# Altium footprint library SuperMiniCar.PcbLib: 38 footprints (part 1 of 3)
Each footprint in its own frame and in the unit in brackets; x right, y up, seen from the top. Pads: shape width x height; smd on the part's side, far side on the other; paste and mask are expansions set on the pad; w line width, h text height; cw(c..) or ccw(c..) is an arc to the next point about the centre after c.
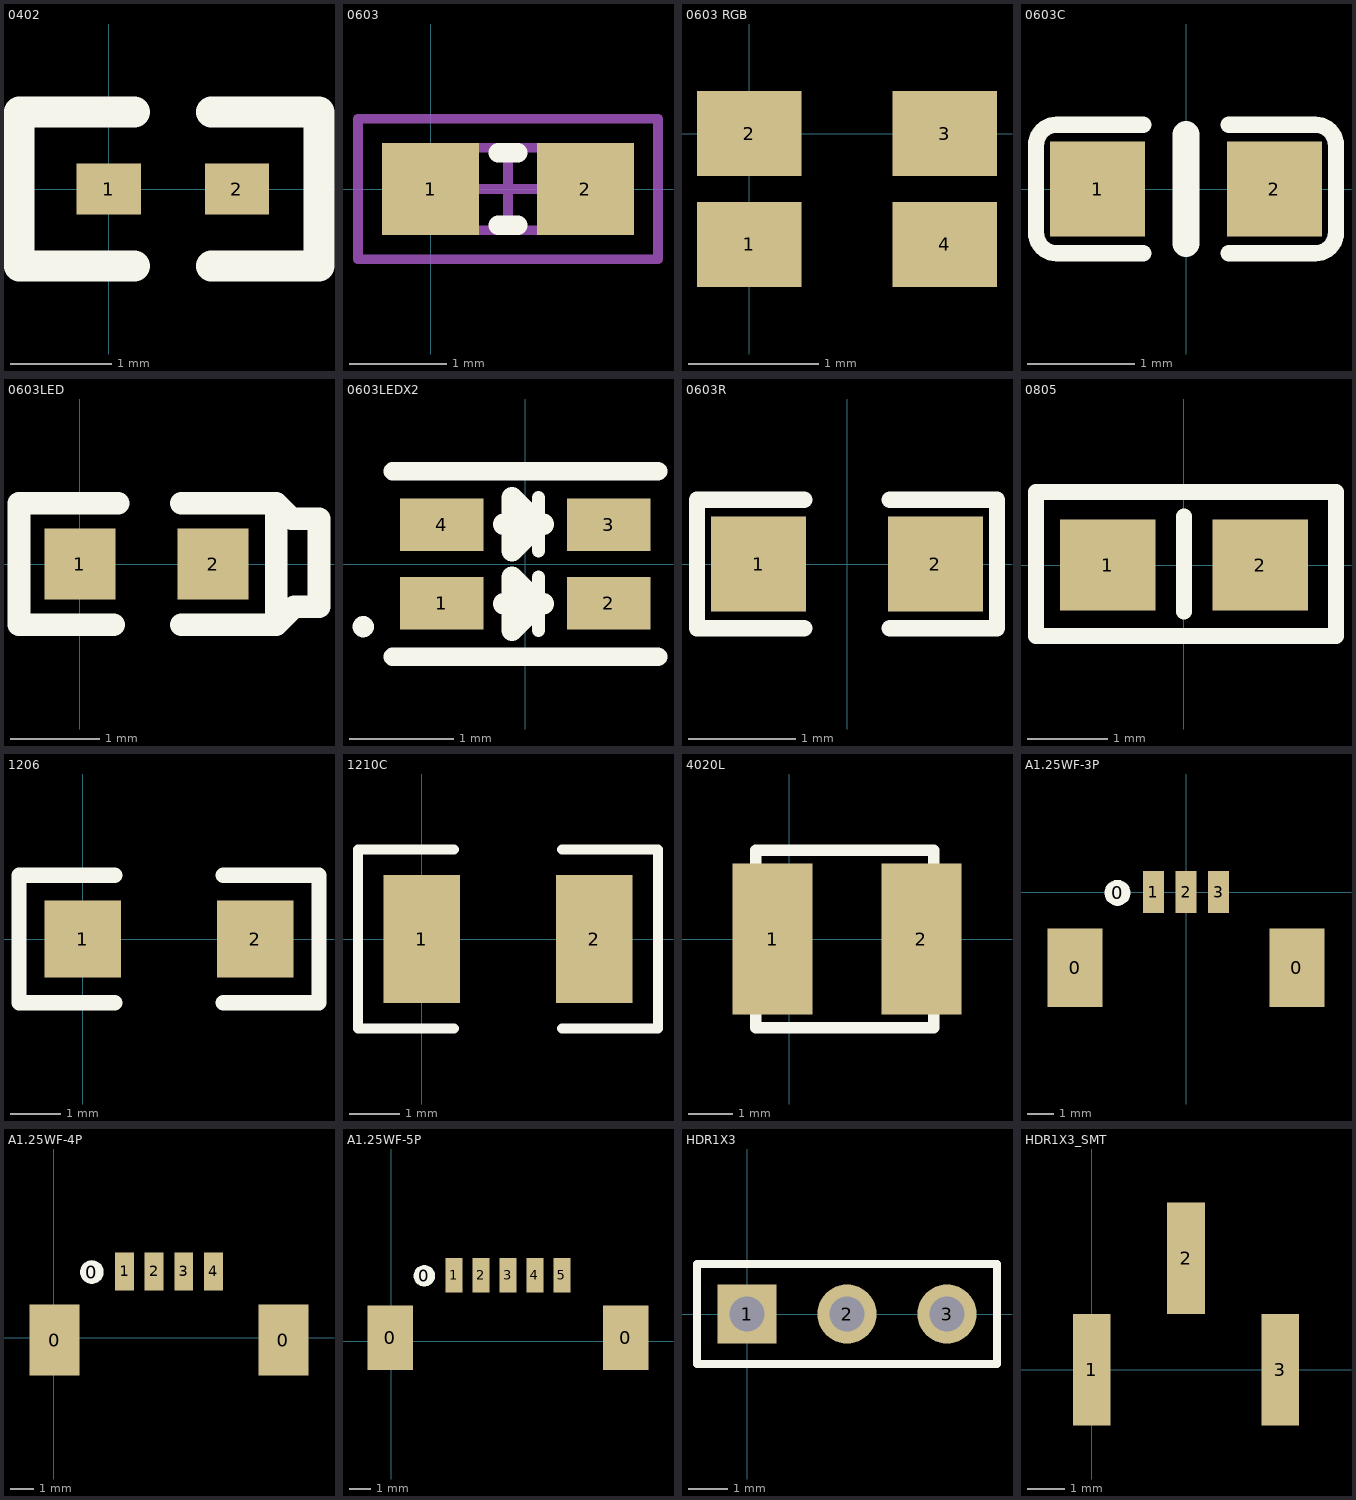
[diagram p0: the footprints below, top view; thin cyan lines are the x and y axes]

## 0402 [mil]
pads (2):
  rect 25x20 smd: 1(0,0) 2(50,0)
Top Overlay:
  lines w12: 10,-30 -35,-30 -35,30 10,30 ; 40,-30 82,-30 82,30 40,30
3D body: height 16.14, standoff 0, extent 2.95,-10.83 48.23,10.82

## 0603 [mm] "Chip Resistor, 2-Leads, Body 1.6x0.8mm, IPC Medium Density"
height 0.5
pads (2):
  rect 1x0.95 smd: 1(0,0) 2(1.6,0)
Top Overlay:
  lines w0.2: 0.7,-0.375 0.9,-0.375 ; 0.7,0.375 0.9,0.375
Mechanical 13:
  lines w0.1: -0.025,-0.425 1.625,-0.425 1.625,0.425 -0.025,0.425 -0.025,-0.425
Mechanical 15:
  lines w0.1: 0.375,0 1.225,0 ; 0.8,-0.425 0.8,0.425 ; -0.75,-0.725 2.35,-0.725 2.35,0.725 -0.75,0.725 -0.75,-0.725
3D body: height 0.88, standoff 0, extent -0.025,-0.425 1.625,0.425

## 0603 RGB [mm]
pads (4):
  rect 0.8x0.65 smd: 1(0,-0.85) 2(0,0) 3(1.5,0) 4(1.5,-0.85)
3D body: height 0.34, standoff -0.01, extent -0.1,-1.2 1.5,0.3

## 0603C [mil]
pads (2):
  rect 35x35 smd: 1(-32.5,0) 2(32.5,0)
Top Overlay:
  lines w6: -15.75,-23.62 -47.5,-23.62 cw(c-47.5,-16) -55.12,-16 -55.12,16 cw(c-47.5,16) -47.5,23.62 -15.75,23.62 ; 15.75,-23.62 47.5,-23.62 ccw(c47.5,-16) 55.12,-16 55.12,16 ccw(c47.5,16) 47.5,23.62 15.75,23.62
  lines w10: 0,-20 0,20
3D body: height 19.68, standoff 0, extent -31.5,-15.75 31.5,15.75

## 0603LED [mm]
pads (2):
  rect 0.8x0.8 smd: 1(0,0) 2(1.5,0)
Top Overlay:
  lines w0.254: 0.381,-0.686 -0.686,-0.686 -0.686,0.686 0.432,0.686 ; 1.143,-0.686 2.21,-0.686 ; 1.143,0.686 2.21,0.686 ; 2.21,-0.686 2.413,-0.483 2.692,-0.483 2.692,0.508 2.388,0.508 2.21,0.686 ; 2.21,-0.686 2.21,0.686

## 0603LEDX2 [mm]
pads (4):
  rect 0.8x0.5 smd: 1(-0.8,-0.375) 2(0.8,-0.375) 3(0.8,0.375) 4(-0.8,0.375)
Top Overlay:
  circle w0.102: c-1.551,-0.6 r0.051
  lines w0.127: 0.127,-0.635 0.127,-0.127 ; 0.127,0.127 0.127,0.635
  lines w0.178: -1.27,-0.889 1.27,-0.889 ; -1.27,0.889 1.27,0.889
  lines w0.203: -0.208,-0.381 0.173,-0.381 ; -0.208,0.381 0.173,0.381 ; -0.127,-0.635 -0.127,-0.127 0.127,-0.381 -0.127,-0.635 ; -0.127,0.127 0.127,0.381 -0.127,0.635 -0.127,0.127

## 0603R [mil]
pads (2):
  rect 35x35 smd: 1(-32.5,0) 2(32.5,0)
Top Overlay:
  lines w6: -15.75,-23.62 -55.12,-23.62 -55.12,23.62 -15.75,23.62 ; 15.74,-23.62 55.11,-23.62 55.11,23.62 15.74,23.62
3D body: height 22.05, standoff 0, extent -33.46,-15.75 33.47,15.74

## 0805 [mm]
pads (2):
  rect 1.2x1.14 smd: 1(-0.955,0) 2(0.955,0)
Top Overlay:
  lines w0.2: 0,-0.584 0,0.61 ; -1.854,-0.889 -1.854,-0.369 -1.854,0.914 1.905,0.914 1.905,-0.889 -1.854,-0.889
3D body: height 0.8, standoff 0, extent -1.025,-0.6 0.975,0.65

## 1206 [mil]
pads (2):
  rect 60x60 smd: 1(0,0) 2(135,0)
Top Overlay:
  lines w12: 25,-50 -50,-50 -50,50 25,50 ; 110,-50 185,-50 185,50 110,50
3D body: height 69.13, standoff -1.74, extent -5.9,-38.39 139.76,38.39

## 1210C [mil]
pads (2):
  rect 60x100 smd: 1(0,0) 2(135,0)
Top Overlay:
  lines w8: 25,-70 -50,-70 -50,70 25,70 ; 110,-70 185,-70 185,70 110,70

## 4020L [mm]
pads (2):
  rect 1.8x3.4 smd: 1(-0.375,0) 2(2.975,0)
Top Overlay:
  lines w0.254: -0.75,-2 3.25,-2 3.25,2 -0.75,2 -0.75,-2
3D body: height 2.1, standoff 0, extent -0.875,-2.15 3.425,2.15

## A1.25WF-3P [mm]
pads (6):
  rect 2.1x3 smd: 0(-4.25,-2.9) 0(4.25,-2.9)
  round 1 on Top Overlay: 0(-2.625,-0.03)
  rect 0.8x1.6 smd: 1(-1.25,0) 2(0,0) 3(1.25,0)
3D body: height 3.58, standoff -0.02, extent -4.175,-5.925 4.225,0.575

## A1.25WF-4P [mm]
pads (7):
  rect 2.1x3 smd: 0(0.025,-0.1) 0(9.686,-0.1)
  round 1 on Top Overlay: 0(1.6,2.77)
  rect 0.8x1.6 smd: 1(2.978,2.8) 2(4.228,2.8) 3(5.478,2.8) 4(6.728,2.8)

## A1.25WF-5P [mm]
pads (8):
  rect 2.1x3 smd: 0(-0.034,0.166) 0(10.871,0.166)
  round 1 on Top Overlay: 0(1.541,3.036)
  rect 0.8x1.6 smd: 1(2.919,3.066) 2(4.169,3.066) 3(5.419,3.066) 4(6.669,3.066) 5(7.919,3.066)
3D body: height 2.5, standoff -0.6, extent -0.2,-3.25 11,3.45

## HDR1X3 [mm] "Connector; Header; 3 Position"
pads (3):
  rect 1.5x1.5 hole 0.9: 1(0,0)
  round 1.5 hole 0.9: 2(2.54,0) 3(5.08,0)
Top Overlay:
  lines w0.2: -1.27,-1.27 6.35,-1.27 6.35,1.27 -1.27,1.27 -1.27,-1.27
3D body: height 2.51, standoff -3, extent -1.25,-9.79 6.37,0.34

## HDR1X3_SMT [mm]
pads (3):
  rect 1.02x3 smd: 1(0,0) 2(2.54,3) 3(5.08,0)